# Altium footprint library DBF.PcbLib: 25 footprints (part 2 of 2)
Each footprint in its own frame and in the unit in brackets; x right, y up, seen from the top. Pads: shape width x height; smd on the part's side, far side on the other; paste and mask are expansions set on the pad; w line width, h text height; cw(c..) or ccw(c..) is an arc to the next point about the centre after c.
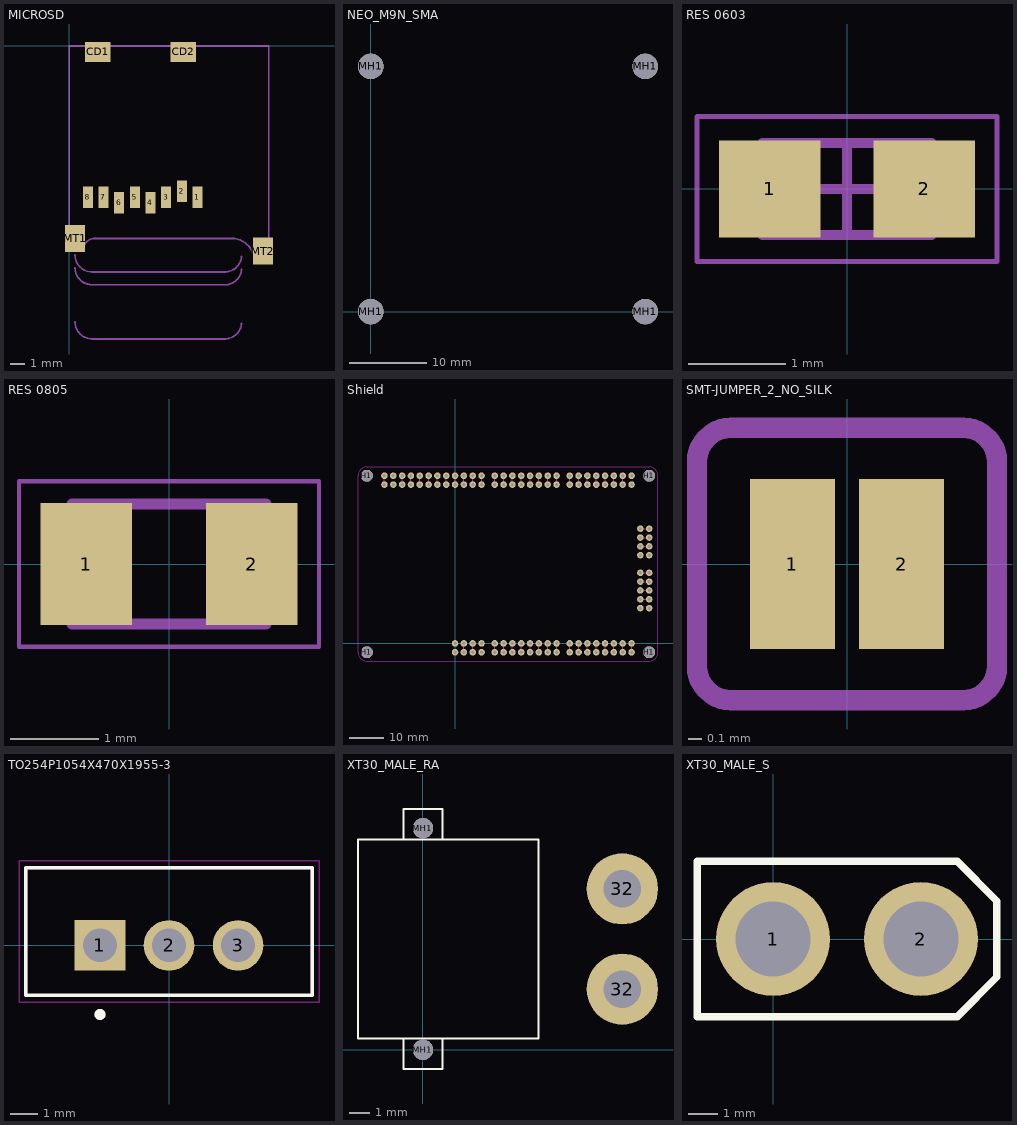
[diagram p1: the footprints below, top view; thin cyan lines are the x and y axes]

## MICROSD [mm]
pads (12):
  rect 0.7x1.5 smd: 1(9,-10.64) 2(7.9,-10.24) 3(6.8,-10.64) 4(5.7,-11.04) 5(4.6,-10.64) 6(3.5,-11.04) 7(2.4,-10.64) 8(1.3,-10.64)
  rect 1.8x1.4 smd: CD1(2,-0.44) CD2(8,-0.44)
  rect 1.4x1.9 smd: MT1(0.4,-13.54) MT2(13.6,-14.44)
Mechanical 7:
  lines w0.127: 0.4,-19.4 ccw(c1.6,-19.4) 1.6,-20.6 10.8,-20.6 ccw(c10.9,-19.4) 12.1,-19.5 ; 0.4,-15.6 ccw(c1.6,-15.6) 1.6,-16.8 10.8,-16.8 ccw(c10.9,-15.6) 12.1,-15.7 ; 0.4,-14.7 ccw(c1.6,-14.7) 1.6,-15.9 10.8,-15.9 ccw(c10.9,-14.7) 12.1,-14.8 ; 0,-14.44 1,-14.44 cw(c1.8,-14.34) 1.7,-13.54 11.4,-13.54 cw(c11.4,-15.14) 13,-15.14 14,-15.14 14,-0.04 0,-0.04 0,-14.44
3D body "micro SD Card Slot.step": height 1.85, standoff -0.05, extent -0.127,-15.323 13.973,0.127

## NEO_M9N_SMA [mil]
pads (4):
  round 130 hole 130 unplated: MH1(0,0) MH1(0,1250) MH1(1400,0) MH1(1400,1250)

## RES 0603 [mm] "Chip Resistor, 2-Leads, Body 1.60x0.80mm, IPC Medium Density"
height 0.8
pads (2):
  rect 1.05x1 smd: 1(-0.8,0) 2(0.8,0)
Mechanical 13:
  lines w0.1: -0.875,-0.475 -0.875,0.475 0.875,0.475 0.875,-0.475 -0.875,-0.475
Mechanical 15:
  lines w0.05: -1.55,-0.75 -1.55,0.75 1.55,0.75 1.55,-0.75 -1.55,-0.75
  lines w0.1: -0.475,0 0.475,0 ; 0,-0.475 0,0.475
3D body: height 0.8, standoff 0, extent -0.525,-0.475 0.525,0.475
3D body: height 0.8, standoff 0, extent -0.875,-0.475 -0.525,0.475
3D body: height 0.8, standoff 0, extent 0.525,-0.475 0.875,0.475

## RES 0805 [mm]
pads (2):
  rect 1.04x1.38 smd: 1(-0.94,0) 2(0.94,0)
Mechanical 3:
  lines w0.127: -1.1,-0.68 1.1,-0.68 1.1,0.68 -1.1,0.68 -1.1,-0.68
Mechanical 7:
  lines w0.127: -0.1,-0.68 0.1,-0.68 ; -0.1,0.68 0.1,0.68
Mechanical 15:
  lines w0.051: -1.702,-0.94 -1.702,0.94 1.702,0.94 1.702,-0.94 -1.702,-0.94
3D body "ERJ-6ENF1071V.STEP": height 0.7, standoff 0, extent -1,-0.625 1,0.625

## Shield [mil] "This part is the layout of all the through holes needed to fit the ATP carrier board"
pads (118):
  round 74 hole 40: 1(0,-100) 1(0,0) 2(100,-100) 2(100,0) 3(200,-100) 3(200,0) 4(300,-100) 4(300,0) 5(450,-100) 5(450,0) 6(550,-100) 6(550,0) 7(650,-100) 7(650,0) 8(750,-100) 8(750,0) 9(850,-100) 9(850,0) 10(950,-100) 10(950,0) 11(1050,-100) 11(1050,0) 12(1150,-100) 12(1150,0) 13(1300,-100) 13(1300,0) 14(1400,-100) 14(1400,0) 15(1500,-100) 15(1500,0) 16(1600,-100) 16(1600,0) 17(1700,-100) 17(1700,0) 18(1800,-100) 18(1800,0) 19(1900,-100) 19(1900,0) 20(2000,-100) 20(2000,0) 21(2100,400) 21(2200,400) 22(2100,500) 22(2200,500) 23(2100,600) 23(2200,600) 24(2100,700) 24(2200,700) 25(2100,800) 25(2200,800) 26(2100,1000) 26(2200,1000) 27(2100,1100) 27(2200,1100) 28(2100,1200) 28(2200,1200) 29(2100,1300) 29(2200,1300) 30(2000,1800) 30(2000,1900) 31(1900,1800) 31(1900,1900) 32(1800,1800) 32(1800,1900) 33(1700,1800) 33(1700,1900) 34(1600,1800) 34(1600,1900) 35(1500,1800) 35(1500,1900) 36(1400,1800) 36(1400,1900) 37(1300,1800) 37(1300,1900) 38(1150,1800) 38(1150,1900) 39(1050,1800) 39(1050,1900) 40(950,1800) 40(950,1900) 41(850,1800) 41(850,1900) 42(750,1800) 42(750,1900) 43(650,1800) 43(650,1900) 44(550,1800) 44(550,1900) 45(450,1800) 45(450,1900) 46(300,1800) 46(300,1900) 47(200,1800) 47(200,1900) 48(100,1800) 48(100,1900) 49(0,1800) 49(0,1900) 50(-100,1800) 50(-100,1900) 51(-200,1800) 51(-200,1900) 52(-300,1800) 52(-300,1900) 53(-400,1800) 53(-400,1900) 54(-500,1800) 54(-500,1900) 55(-600,1800) 55(-600,1900) 56(-700,1800) 56(-700,1900) 57(-800,1800) 57(-800,1900)
  round 135 / inner round 74 / far side round 74 hole 135 unplated: H1(-1000,-100) H1(-1000,1900) H1(2200,-100) H1(2200,1900)
Top Layer:
  lines w10: -800,1800 -800,1900 ; -600,1800 -600,1900 ; -500,1800 -500,1900 ; -400,1800 -400,1900 ; -300,1800 -300,1900 ; -200,1800 -200,1900 ; -100,1800 -100,1900 ; 0,1800 0,1900 ; 100,-100 100,0 ; 100,1800 100,1900 ; 200,-100 200,0 ; 200,1800 200,1900 ; 300,1800 300,1900 ; 450,-100 450,0 ; 450,1800 450,1900 ; 550,-100 550,0 ; 550,1800 550,1900 ; 650,-100 650,0 ; 650,1800 650,1900 ; 750,-100 750,0 ; 750,1800 750,1900 ; 850,-100 850,0 ; 850,1800 850,1900 ; 950,-100 950,0 ; 950,1800 950,1900 ; 1050,-100 1050,0 ; 1050,1800 1050,1900 ; 1150,-100 1150,0 ; 1150,1800 1150,1900 ; 1300,-100 1300,0 ; 1300,1800 1300,1900 ; 1400,-100 1400,0 ; 1400,1800 1400,1900 ; 1500,-100 1500,0 ; 1500,1800 1500,1900 ; 1600,-100 1600,0 ; 1600,1800 1600,1900 ; 1700,-100 1700,0 ; 1700,1800 1700,1900 ; 1800,-100 1800,0 ; 1800,1800 1800,1900 ; 1900,-100 1900,0 ; 1900,1800 1900,1900 ; 2000,-100 2000,0 ; 2100,500 2200,500 ; 2100,600 2200,600 ; 2100,700 2200,700 ; 2100,800 2200,800 ; 2100,1100 2200,1100 ; 2100,1200 2200,1200 ; 2100,1300 2200,1300
Keep-Out Layer:
  lines w10: -1100,-100 ccw(c-1000,-100) -1000,-200 2200,-200 ccw(c2200,-100) 2300,-100 2300,1900 ccw(c2200,1900) 2200,2000 -1000,2000 ccw(c-1000,1900) -1100,1900 -1100,-100
3D body "5-Pin Header - Female - 2.54mm.step": height 196.85, standoff -118.11, extent 2050.79,340.16 2149.21,859.85
3D body "4-Pin Header - Female - 2.54mm.step": height 196.85, standoff -118.11, extent 2050.79,940.16 2149.21,1359.85
3D body "4-Pin Header - Female - 2.54mm.step": height 196.85, standoff -118.11, extent -59.84,-49.21 359.85,49.22
3D body "12-Pin Header - Female - 2.54mm.step": height 196.85, standoff -118.11, extent -859.84,1750.79 359.84,1849.21
3D body "8-Pin Header - Female - 2.54mm.step": height 196.85, standoff -118.11, extent 390.16,1750.79 1209.85,1849.22
3D body "8-Pin Header - Female - 2.54mm.step": height 196.85, standoff -118.11, extent 1240.16,1750.79 2059.85,1849.22
3D body "8-Pin Header - Female - 2.54mm.step": height 196.85, standoff -118.11, extent 390.16,-49.21 1209.85,49.22
3D body "8-Pin Header - Female - 2.54mm.step": height 196.85, standoff -118.11, extent 1240.16,-49.21 2059.85,49.22

## SMT-JUMPER_2_NO_SILK [mil]
pads (2):
  rect 25x50 smd paste+0: 1(-16,0) 2(16,0)
Mechanical 7:
  lines w6: -44,-30 ccw(c-34,-30) -34,-40 34,-40 ccw(c34,-30) 44,-30 44,30 ccw(c34,30) 34,40 -34,40 ccw(c-34,30) -44,30 -44,-30

## TO254P1054X470X1955-3 [mil]
pads (3):
  rect 73.23x73.23 / inner round 67.66 / far side rect 73.23x73.23 hole 48.82: 1(-100,0)
  round 73.23 hole 48.82: 2(0,0) 3(100,0)
Top Layer keep-out:
  lines w1.97: -217.32,-82.28 217.32,-82.28 217.32,122.44 -217.32,122.44 -217.32,-82.28
Top Overlay:
  circle w7.87: c-100,-100 r3.94
  lines w5: -207.48,-72.44 -207.48,112.6 207.48,112.6 207.48,-72.44 ; -207.48,-72.44 207.48,-72.44 ; -207.48,-72.44 207.48,-72.44
Mechanical 3:
  circle w7.87: c-100,-100 r3.94
Mechanical 7:
  lines w5: -207.48,-72.44 -207.48,112.6 207.48,112.6 207.48,-72.44
3D body "LM338_NOPB.STEP": height 770, standoff -385, extent -199.99,-69.99 200.01,110.01

## XT30_MALE_RA [mil] "right angle XT30 male connector"
pads (4):
  round 140 hole 74: 32(391.24,119.07) 32(391.24,315.93)
  round 40 hole 40: MH1(0,0) MH1(0,435)
Top Overlay:
  lines w3.94: -38,22 -38,-38 38,-38 38,22 ; -38,413 -38,473 38,473 38,413 ; 226.83,410.41 226.83,22.62 -127.5,22.62 -127.5,412.38 226.83,412.38

## XT30_MALE_S [mil] "straight XT30 male connector"
pads (2):
  round 151.7 hole 100: 1(0,0) 2(197,0)
Top Overlay:
  lines w10: 298.5,-50.5 245.5,-103.5 -101.5,-103.5 -101.5,0 -101.5,103.5 245.5,103.5 298.5,50.5 ; 298.5,-47 298.5,0 298.5,47
3D body "User Library-XT30.STEP": height 496.06, standoff -114.17, extent -109.45,-105 300,103.66